# Altium footprint library Right angle DB-9 RCPT.PcbLib: 1 footprints
Each footprint in its own frame and in the unit in brackets; x right, y up, seen from the top. Pads: shape width x height; smd on the part's side, far side on the other; paste and mask are expansions set on the pad; w line width, h text height; cw(c..) or ccw(c..) is an arc to the next point about the centre after c.
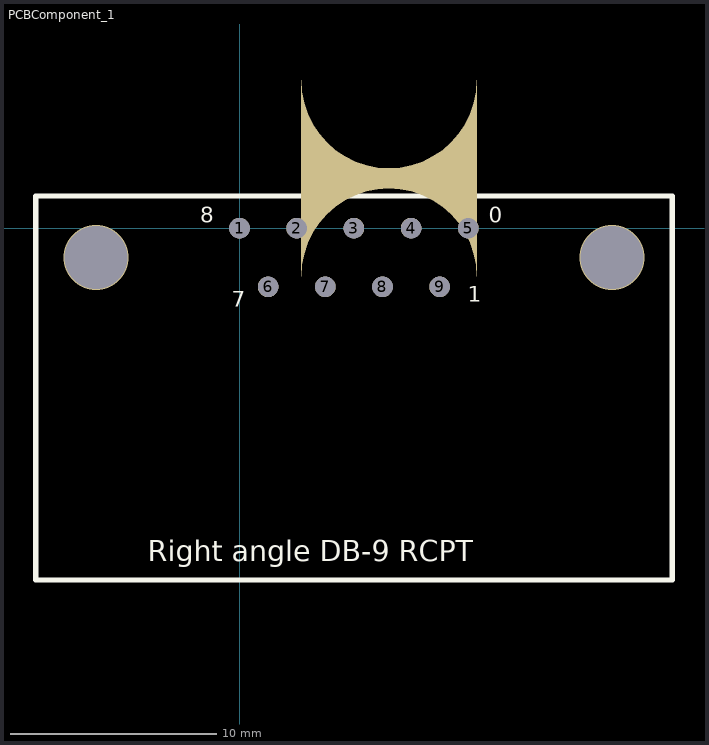
[diagram p0: the footprint, top view; thin cyan lines are the x and y axes]

## PCBComponent_1 [mm]
pads (10):
  round 1 hole 1: 1(0,0) 2(2.77,0) 3(5.54,0) 4(8.31,0) 5(11.08,0) 6(1.385,-2.84) 7(4.155,-2.84) 8(6.925,-2.84) 9(9.695,-2.84)
  oval 0x1 all layers, no hole: p3(7.239,2.413)
via -6.955,-1.42 diameter 3.15 hole 3.05
via 18.035,-1.42 diameter 3.15 hole 3.05
Top Overlay:
  lines w0.254: -9.865,-17.04 -9.865,1.56 20.955,1.56 20.955,-17.04 -9.865,-17.04
  text "Right angle DB-9 RCPT" at -4.445,-16.129 h1.02
  text "0" at 12.065,0.254 h0.76
  text "1" at 11.049,-3.556 h0.76
  text "7" at -0.381,-3.81 h0.76
  text "8" at -1.905,0.254 h0.76
3D body: height 0.25, standoff 0, extent -18.796,-2.286 -18.796,-2.286
3D body "connector_a-df_09_a_kg-t2.stp": height 12.55, standoff -4.33, extent -9.817,-16.722 20.993,1.578
3D body: height 0.25, standoff 0, extent 5.54,-8.001 5.54,-8.001